# Altium integrated library led-1206.IntLib: 30 symbols
Pins are listed as number, name and electrical type; pins without a type are passive.

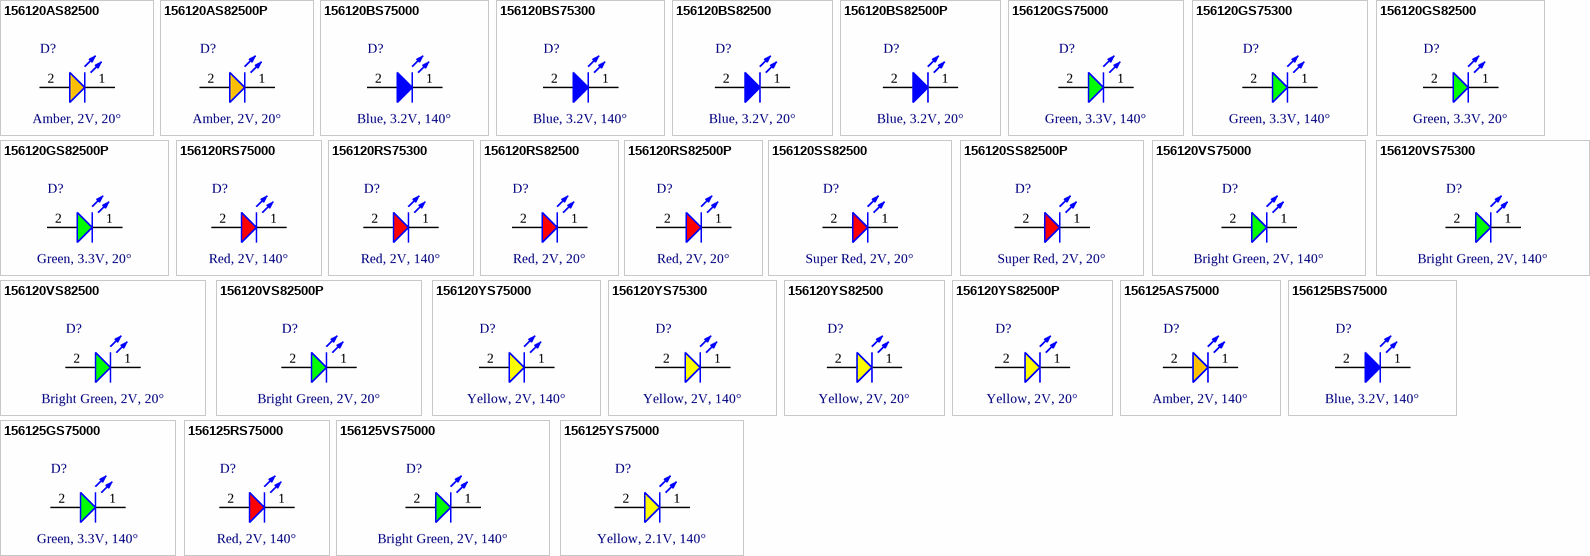
[diagram p0: symbols 156120AS82500 to 156125YS75000]

## 156120AS82500
designator D?, comment Amber, 2V, 20°
WL-SMRW Mono-color Reverse mount Waterclear, SMT, size 1206 dome, Amber, 2V, 20°; Manufacturer Part Number: 156120AS82500; Manufacturer: Wurth Elektronik; Chip Technology: AlInGaP; Dominant Wavelength: 605nm; Luminous Intensity: 2200mcd; Peak Wavelength: 609nm; Category: Signal LEDs; Match Code: WL-SMRW; ComponentLink1Description: Website Link; ComponentLink1URL: https://www.we-online.com/redexpert/article/156120AS82500?ad; ComponentLink2Description: Datasheet Link; ComponentLink2URL: https://www.we-online.com/redexpert/spec/156120AS82500?ad; Mount: Surface Mount; Operating Temperature Max: 85°C; Operating Temperature Min: -40°C; Packaging: Tape and Reel; Case/Size Code: 1206 dome; Length: 3.2mm; Width: 1.6mm; Height: 1.85mm; Emitting Color: Amber; Forward Voltage: 2V; Viewing Angle: 20°
footprint WL-SMRW_1206 dome_reverse use
footprint WL-SMRW_1206 dome_normal use
simulation model 1206_156120AS82500
pins: 1 K, 2 A

## 156120AS82500P
designator D?, comment Amber, 2V, 20°
WL-SMRW Mono-color Reverse mount Waterclear, SMT, size 1206 dome, Amber, 2V, 20°; Manufacturer Part Number: 156120AS82500P; Manufacturer: Wurth Elektronik; Chip Technology: AlInGaP; Dominant Wavelength: 605nm; Luminous Intensity: 2200mcd; Peak Wavelength: 609nm; Category: Signal LEDs; Match Code: WL-SMRW; ComponentLink1Description: Website Link; ComponentLink1URL: https://www.we-online.com/redexpert/article/156120AS82500P?ad; ComponentLink2Description: Datasheet Link; ComponentLink2URL: https://www.we-online.com/redexpert/spec/156120AS82500P?ad; Mount: Surface Mount; Operating Temperature Max: 85°C; Operating Temperature Min: -40°C; Packaging: Tape and Reel; Case/Size Code: 1206 dome; Length: 3.2mm; Width: 1.6mm; Height: 1.85mm; Emitting Color: Amber; Forward Voltage: 2V; Viewing Angle: 20°
footprint WL-SMRW_1206 dome_reverse use
footprint WL-SMRW_1206 dome_normal use
simulation model 1206_156120AS82500P
pins: 1 K, 2 A

## 156120BS75000
designator D?, comment Blue, 3.2V, 140°
WL-SMRW Mono-color Reverse mount Waterclear, SMT, size 1206 rectangular, Blue, 3.2V, 140°; Manufacturer Part Number: 156120BS75000; Manufacturer: Wurth Elektronik; Chip Technology: InGaN; Dominant Wavelength: 470nm; Luminous Intensity: 50mcd; Peak Wavelength: 465nm; Category: Signal LEDs; Match Code: WL-SMRW; ComponentLink1Description: Website Link; ComponentLink1URL: https://www.we-online.com/redexpert/article/156120BS75000?ad; ComponentLink2Description: Datasheet Link; ComponentLink2URL: https://www.we-online.com/redexpert/spec/156120BS75000?ad; Mount: Surface Mount; Operating Temperature Max: 85°C; Operating Temperature Min: -40°C; Packaging: Tape and Reel; Case/Size Code: 1206 rectangular; Length: 3.2mm; Width: 1.6mm; Height: 1.2mm; Emitting Color: Blue; Forward Voltage: 3.2V; Viewing Angle: 140°
footprint WL-SMRW_1206 rectangular_reverse use
footprint WL-SMRW_1206 rectangular_normal use
simulation model 1206_156120BS75000
pins: 1 K, 2 A

## 156120BS75300
designator D?, comment Blue, 3.2V, 140°
WL-SMRW Mono-color Reverse mount Waterclear, SMT, size 1206 cylindrical, Blue, 3.2V, 140°; Manufacturer Part Number: 156120BS75300; Manufacturer: Wurth Elektronik; Chip Technology: InGaN; Dominant Wavelength: 470nm; Luminous Intensity: 50mcd; Peak Wavelength: 465nm; Category: Signal LEDs; Match Code: WL-SMRW; ComponentLink1Description: Website Link; ComponentLink1URL: https://www.we-online.com/redexpert/article/156120BS75300?ad; ComponentLink2Description: Datasheet Link; ComponentLink2URL: https://www.we-online.com/redexpert/spec/156120BS75300?ad; Mount: Surface Mount; Operating Temperature Max: 85°C; Operating Temperature Min: -40°C; Packaging: Tape and Reel; Case/Size Code: 1206 cylindrical; Length: 3.2mm; Width: 1.6mm; Height: 1.2mm; Emitting Color: Blue; Forward Voltage: 3.2V; Viewing Angle: 140°
footprint WL-SMRW_1206 cylindrical_reverse use
footprint WL-SMRW_1206 cylindrical_normal use
simulation model 1206_156120BS75300
pins: 1 K, 2 A

## 156120BS82500
designator D?, comment Blue, 3.2V, 20°
WL-SMRW Mono-color Reverse mount Waterclear, SMT, size 1206 dome, Blue, 3.2V, 20°; Manufacturer Part Number: 156120BS82500; Manufacturer: Wurth Elektronik; Chip Technology: InGaN; Dominant Wavelength: 470nm; Luminous Intensity: 700mcd; Peak Wavelength: 465nm; Category: Signal LEDs; Match Code: WL-SMRW; ComponentLink1Description: Website Link; ComponentLink1URL: https://www.we-online.com/redexpert/article/156120BS82500?ad; ComponentLink2Description: Datasheet Link; ComponentLink2URL: https://www.we-online.com/redexpert/spec/156120BS82500?ad; Mount: Surface Mount; Operating Temperature Max: 85°C; Operating Temperature Min: -40°C; Packaging: Tape and Reel; Case/Size Code: 1206 dome; Length: 3.2mm; Width: 1.6mm; Height: 1.85mm; Emitting Color: Blue; Forward Voltage: 3.2V; Viewing Angle: 20°
footprint WL-SMRW_1206 dome_reverse use
footprint WL-SMRW_1206 dome_normal use
simulation model 1206_156120BS82500
pins: 1 K, 2 A

## 156120BS82500P
designator D?, comment Blue, 3.2V, 20°
WL-SMRW Mono-color Reverse mount Waterclear, SMT, size 1206 dome, Blue, 3.2V, 20°; Manufacturer Part Number: 156120BS82500P; Manufacturer: Wurth Elektronik; Chip Technology: InGaN; Dominant Wavelength: 470nm; Luminous Intensity: 700mcd; Peak Wavelength: 465nm; Category: Signal LEDs; Match Code: WL-SMRW; ComponentLink1Description: Website Link; ComponentLink1URL: https://www.we-online.com/redexpert/article/156120BS82500P?ad; ComponentLink2Description: Datasheet Link; ComponentLink2URL: https://www.we-online.com/redexpert/spec/156120BS82500P?ad; Mount: Surface Mount; Operating Temperature Max: 85°C; Operating Temperature Min: -40°C; Packaging: Tape and Reel; Case/Size Code: 1206 dome; Length: 3.2mm; Width: 1.6mm; Height: 1.85mm; Emitting Color: Blue; Forward Voltage: 3.2V; Viewing Angle: 20°
footprint WL-SMRW_1206 dome_reverse use
footprint WL-SMRW_1206 dome_normal use
simulation model 1206_156120BS82500P
pins: 1 K, 2 A

## 156120GS75000
designator D?, comment Green, 3.3V, 140°
WL-SMRW Mono-color Reverse mount Waterclear, SMT, size 1206 rectangular, Green, 3.3V, 140°; Manufacturer Part Number: 156120GS75000; Manufacturer: Wurth Elektronik; Chip Technology: InGaN; Dominant Wavelength: 525nm; Luminous Intensity: 235mcd; Peak Wavelength: 520nm; Category: Signal LEDs; Match Code: WL-SMRW; ComponentLink1Description: Website Link; ComponentLink1URL: https://www.we-online.com/redexpert/article/156120GS75000?ad; ComponentLink2Description: Datasheet Link; ComponentLink2URL: https://www.we-online.com/redexpert/spec/156120GS75000?ad; Mount: Surface Mount; Operating Temperature Max: 85°C; Operating Temperature Min: -40°C; Packaging: Tape and Reel; Case/Size Code: 1206 rectangular; Length: 3.2mm; Width: 1.6mm; Height: 1.2mm; Emitting Color: Green; Forward Voltage: 3.3V; Viewing Angle: 140°
footprint WL-SMRW_1206 rectangular_reverse use
footprint WL-SMRW_1206 rectangular_normal use
simulation model 1206_156120GS75000
pins: 1 K, 2 A

## 156120GS75300
designator D?, comment Green, 3.3V, 140°
WL-SMRW Mono-color Reverse mount Waterclear, SMT, size 1206 cylindrical, Green, 3.3V, 140°; Manufacturer Part Number: 156120GS75300; Manufacturer: Wurth Elektronik; Chip Technology: InGaN; Dominant Wavelength: 525nm; Luminous Intensity: 235mcd; Peak Wavelength: 520nm; Category: Signal LEDs; Match Code: WL-SMRW; ComponentLink1Description: Website Link; ComponentLink1URL: https://www.we-online.com/redexpert/article/156120GS75300?ad; ComponentLink2Description: Datasheet Link; ComponentLink2URL: https://www.we-online.com/redexpert/spec/156120GS75300?ad; Mount: Surface Mount; Operating Temperature Max: 85°C; Operating Temperature Min: -40°C; Packaging: Tape and Reel; Case/Size Code: 1206 cylindrical; Length: 3.2mm; Width: 1.6mm; Height: 1.2mm; Emitting Color: Green; Forward Voltage: 3.3V; Viewing Angle: 140°
footprint WL-SMRW_1206 cylindrical_reverse use
footprint WL-SMRW_1206 cylindrical_normal use
simulation model 1206_156120GS75300
pins: 1 K, 2 A

## 156120GS82500
designator D?, comment Green, 3.3V, 20°
WL-SMRW Mono-color Reverse mount Waterclear, SMT, size 1206 dome, Green, 3.3V, 20°; Manufacturer Part Number: 156120GS82500; Manufacturer: Wurth Elektronik; Chip Technology: InGaN; Dominant Wavelength: 525nm; Luminous Intensity: 1500mcd; Peak Wavelength: 520nm; Category: Signal LEDs; Match Code: WL-SMRW; ComponentLink1Description: Website Link; ComponentLink1URL: https://www.we-online.com/redexpert/article/156120GS82500?ad; ComponentLink2Description: Datasheet Link; ComponentLink2URL: https://www.we-online.com/redexpert/spec/156120GS82500?ad; Mount: Surface Mount; Operating Temperature Max: 85°C; Operating Temperature Min: -40°C; Packaging: Tape and Reel; Case/Size Code: 1206 dome; Length: 3.2mm; Width: 1.6mm; Height: 1.85mm; Emitting Color: Green; Forward Voltage: 3.3V; Viewing Angle: 20°
footprint WL-SMRW_1206 dome_reverse use
footprint WL-SMRW_1206 dome_normal use
simulation model 1206_156120GS82500
pins: 1 K, 2 A

## 156120GS82500P
designator D?, comment Green, 3.3V, 20°
WL-SMRW Mono-color Reverse mount Waterclear, SMT, size 1206 dome, Green, 3.3V, 20°; Manufacturer Part Number: 156120GS82500P; Manufacturer: Wurth Elektronik; Chip Technology: InGaN; Dominant Wavelength: 525nm; Luminous Intensity: 1500mcd; Peak Wavelength: 520nm; Category: Signal LEDs; Match Code: WL-SMRW; ComponentLink1Description: Website Link; ComponentLink1URL: https://www.we-online.com/redexpert/article/156120GS82500P?ad; ComponentLink2Description: Datasheet Link; ComponentLink2URL: https://www.we-online.com/redexpert/spec/156120GS82500P?ad; Mount: Surface Mount; Operating Temperature Max: 85°C; Operating Temperature Min: -40°C; Packaging: Tape and Reel; Case/Size Code: 1206 dome; Length: 3.2mm; Width: 1.6mm; Height: 1.85mm; Emitting Color: Green; Forward Voltage: 3.3V; Viewing Angle: 20°
footprint WL-SMRW_1206 dome_reverse use
footprint WL-SMRW_1206 dome_normal use
simulation model 1206_156120GS82500P
pins: 1 K, 2 A

## 156120RS75000
designator D?, comment Red, 2V, 140°
WL-SMRW Mono-color Reverse mount Waterclear, SMT, size 1206 rectangular, Red, 2V, 140°; Manufacturer Part Number: 156120RS75000; Manufacturer: Wurth Elektronik; Chip Technology: AlInGaP; Dominant Wavelength: 624nm; Luminous Intensity: 60mcd; Peak Wavelength: 632nm; Category: Signal LEDs; Match Code: WL-SMRW; ComponentLink1Description: Website Link; ComponentLink1URL: https://www.we-online.com/redexpert/article/156120RS75000?ad; ComponentLink2Description: Datasheet Link; ComponentLink2URL: https://www.we-online.com/redexpert/spec/156120RS75000?ad; Mount: Surface Mount; Operating Temperature Max: 85°C; Operating Temperature Min: -40°C; Packaging: Tape and Reel; Case/Size Code: 1206 rectangular; Length: 3.2mm; Width: 1.6mm; Height: 1.2mm; Emitting Color: Red; Forward Voltage: 2V; Viewing Angle: 140°
footprint WL-SMRW_1206 rectangular_reverse use
footprint WL-SMRW_1206 rectangular_normal use
simulation model 1206_156120RS75000
pins: 1 K, 2 A

## 156120RS75300
designator D?, comment Red, 2V, 140°
WL-SMRW Mono-color Reverse mount Waterclear, SMT, size 1206 cylindrical, Red, 2V, 140°; Manufacturer Part Number: 156120RS75300; Manufacturer: Wurth Elektronik; Chip Technology: AlInGaP; Dominant Wavelength: 624nm; Luminous Intensity: 60mcd; Peak Wavelength: 632nm; Category: Signal LEDs; Match Code: WL-SMRW; ComponentLink1Description: Website Link; ComponentLink1URL: https://www.we-online.com/redexpert/article/156120RS75300?ad; ComponentLink2Description: Datasheet Link; ComponentLink2URL: https://www.we-online.com/redexpert/spec/156120RS75300?ad; Mount: Surface Mount; Operating Temperature Max: 85°C; Operating Temperature Min: -40°C; Packaging: Tape and Reel; Case/Size Code: 1206 cylindrical; Length: 3.2mm; Width: 1.6mm; Height: 1.2mm; Emitting Color: Red; Forward Voltage: 2V; Viewing Angle: 140°
footprint WL-SMRW_1206 cylindrical_reverse use
footprint WL-SMRW_1206 cylindrical_normal use
simulation model 1206_156120RS75300
pins: 1 K, 2 A

## 156120RS82500
designator D?, comment Red, 2V, 20°
WL-SMRW Mono-color Reverse mount Waterclear, SMT, size 1206 dome, Red, 2V, 20°; Manufacturer Part Number: 156120RS82500; Manufacturer: Wurth Elektronik; Chip Technology: AlInGaP; Dominant Wavelength: 624nm; Luminous Intensity: 1100mcd; Peak Wavelength: 632nm; Category: Signal LEDs; Match Code: WL-SMRW; ComponentLink1Description: Website Link; ComponentLink1URL: https://www.we-online.com/redexpert/article/156120RS82500?ad; ComponentLink2Description: Datasheet Link; ComponentLink2URL: https://www.we-online.com/redexpert/spec/156120RS82500?ad; Mount: Surface Mount; Operating Temperature Max: 85°C; Operating Temperature Min: -40°C; Packaging: Tape and Reel; Case/Size Code: 1206 dome; Length: 3.2mm; Width: 1.6mm; Height: 1.85mm; Emitting Color: Red; Forward Voltage: 2V; Viewing Angle: 20°
footprint WL-SMRW_1206 dome_reverse use
footprint WL-SMRW_1206 dome_normal use
simulation model 1206_156120RS82500
pins: 1 K, 2 A

## 156120RS82500P
designator D?, comment Red, 2V, 20°
WL-SMRW Mono-color Reverse mount Waterclear, SMT, size 1206 dome, Red, 2V, 20°; Manufacturer Part Number: 156120RS82500P; Manufacturer: Wurth Elektronik; Chip Technology: AlInGaP; Dominant Wavelength: 624nm; Luminous Intensity: 1100mcd; Peak Wavelength: 632nm; Category: Signal LEDs; Match Code: WL-SMRW; ComponentLink1Description: Website Link; ComponentLink1URL: https://www.we-online.com/redexpert/article/156120RS82500P?ad; ComponentLink2Description: Datasheet Link; ComponentLink2URL: https://www.we-online.com/redexpert/spec/156120RS82500P?ad; Mount: Surface Mount; Operating Temperature Max: 85°C; Operating Temperature Min: -40°C; Packaging: Tape and Reel; Case/Size Code: 1206 dome; Length: 3.2mm; Width: 1.6mm; Height: 1.85mm; Emitting Color: Red; Forward Voltage: 2V; Viewing Angle: 20°
footprint WL-SMRW_1206 dome_reverse use
footprint WL-SMRW_1206 dome_normal use
simulation model 1206_156120RS82500P
pins: 1 K, 2 A

## 156120SS82500
designator D?, comment Super Red, 2V, 20°
WL-SMRW Mono-color Reverse mount Waterclear, SMT, size 1206 dome, Super Red, 2V, 20°; Manufacturer Part Number: 156120SS82500; Manufacturer: Wurth Elektronik; Chip Technology: AlInGaP; Dominant Wavelength: 630nm; Luminous Intensity: 900mcd; Peak Wavelength: 645nm; Category: Signal LEDs; Match Code: WL-SMRW; ComponentLink1Description: Website Link; ComponentLink1URL: https://www.we-online.com/redexpert/article/156120SS82500?ad; ComponentLink2Description: Datasheet Link; ComponentLink2URL: https://www.we-online.com/redexpert/spec/156120SS82500?ad; Mount: Surface Mount; Operating Temperature Max: 85°C; Operating Temperature Min: -40°C; Packaging: Tape and Reel; Case/Size Code: 1206 dome; Length: 3.2mm; Width: 1.6mm; Height: 1.85mm; Emitting Color: Super Red; Forward Voltage: 2V; Viewing Angle: 20°
footprint WL-SMRW_1206 dome_reverse use
footprint WL-SMRW_1206 dome_normal use
simulation model 1206_156120SS82500
pins: 1 K, 2 A

## 156120SS82500P
designator D?, comment Super Red, 2V, 20°
WL-SMRW Mono-color Reverse mount Waterclear, SMT, size 1206 dome, Super Red, 2V, 20°; Manufacturer Part Number: 156120SS82500P; Manufacturer: Wurth Elektronik; Chip Technology: AlInGaP; Dominant Wavelength: 630nm; Luminous Intensity: 900mcd; Peak Wavelength: 645nm; Category: Signal LEDs; Match Code: WL-SMRW; ComponentLink1Description: Website Link; ComponentLink1URL: https://www.we-online.com/redexpert/article/156120SS82500P?ad; ComponentLink2Description: Datasheet Link; ComponentLink2URL: https://www.we-online.com/redexpert/spec/156120SS82500P?ad; Mount: Surface Mount; Operating Temperature Max: 85°C; Operating Temperature Min: -40°C; Packaging: Tape and Reel; Case/Size Code: 1206 dome; Length: 3.2mm; Width: 1.6mm; Height: 1.85mm; Emitting Color: Super Red; Forward Voltage: 2V; Viewing Angle: 20°
footprint WL-SMRW_1206 dome_reverse use
footprint WL-SMRW_1206 dome_normal use
simulation model 1206_156120SS82500P
pins: 1 K, 2 A

## 156120VS75000
designator D?, comment Bright Green, 2V, 140°
WL-SMRW Mono-color Reverse mount Waterclear, SMT, size 1206 rectangular, Bright Green, 2V, 140°; Manufacturer Part Number: 156120VS75000; Manufacturer: Wurth Elektronik; Chip Technology: AlInGaP; Dominant Wavelength: 573nm; Luminous Intensity: 30mcd; Peak Wavelength: 575nm; Category: Signal LEDs; Match Code: WL-SMRW; ComponentLink1Description: Website Link; ComponentLink1URL: https://www.we-online.com/redexpert/article/156120VS75000?ad; ComponentLink2Description: Datasheet Link; ComponentLink2URL: https://www.we-online.com/redexpert/spec/156120VS75000?ad; Mount: Surface Mount; Operating Temperature Max: 85°C; Operating Temperature Min: -40°C; Packaging: Tape and Reel; Case/Size Code: 1206 rectangular; Length: 3.2mm; Width: 1.6mm; Height: 1.2mm; Emitting Color: Bright Green; Forward Voltage: 2V; Viewing Angle: 140°
footprint WL-SMRW_1206 rectangular_reverse use
footprint WL-SMRW_1206 rectangular_normal use
simulation model 1206_156120VS75000
pins: 1 K, 2 A

## 156120VS75300
designator D?, comment Bright Green, 2V, 140°
WL-SMRW Mono-color Reverse mount Waterclear, SMT, size 1206 cylindrical, Bright Green, 2V, 140°; Manufacturer Part Number: 156120VS75300; Manufacturer: Wurth Elektronik; Chip Technology: AlInGaP; Dominant Wavelength: 573nm; Luminous Intensity: 30mcd; Peak Wavelength: 575nm; Category: Signal LEDs; Match Code: WL-SMRW; ComponentLink1Description: Website Link; ComponentLink1URL: https://www.we-online.com/redexpert/article/156120VS75300?ad; ComponentLink2Description: Datasheet Link; ComponentLink2URL: https://www.we-online.com/redexpert/spec/156120VS75300?ad; Mount: Surface Mount; Operating Temperature Max: 85°C; Operating Temperature Min: -40°C; Packaging: Tape and Reel; Case/Size Code: 1206 cylindrical; Length: 3.2mm; Width: 1.6mm; Height: 1.2mm; Emitting Color: Bright Green; Forward Voltage: 2V; Viewing Angle: 140°
footprint WL-SMRW_1206 cylindrical_reverse use
footprint WL-SMRW_1206 cylindrical_normal use
simulation model 1206_156120VS75300
pins: 1 K, 2 A

## 156120VS82500
designator D?, comment Bright Green, 2V, 20°
WL-SMRW Mono-color Reverse mount Waterclear, SMT, size 1206 dome, Bright Green, 2V, 20°; Manufacturer Part Number: 156120VS82500; Manufacturer: Wurth Elektronik; Chip Technology: AlInGaP; Dominant Wavelength: 573nm; Luminous Intensity: 1050mcd; Peak Wavelength: 575nm; Category: Signal LEDs; Match Code: WL-SMRW; ComponentLink1Description: Website Link; ComponentLink1URL: https://www.we-online.com/redexpert/article/156120VS82500?ad; ComponentLink2Description: Datasheet Link; ComponentLink2URL: https://www.we-online.com/redexpert/spec/156120VS82500?ad; Mount: Surface Mount; Operating Temperature Max: 85°C; Operating Temperature Min: -40°C; Packaging: Tape and Reel; Case/Size Code: 1206 dome; Length: 3.2mm; Width: 1.6mm; Height: 1.85mm; Emitting Color: Bright Green; Forward Voltage: 2V; Viewing Angle: 20°
footprint WL-SMRW_1206 dome_reverse use
footprint WL-SMRW_1206 dome_normal use
simulation model 1206_156120VS82500
pins: 1 K, 2 A

## 156120VS82500P
designator D?, comment Bright Green, 2V, 20°
WL-SMRW Mono-color Reverse mount Waterclear, SMT, size 1206 dome, Bright Green, 2V, 20°; Manufacturer Part Number: 156120VS82500P; Manufacturer: Wurth Elektronik; Chip Technology: AlInGaP; Dominant Wavelength: 573nm; Luminous Intensity: 1050mcd; Peak Wavelength: 575nm; Category: Signal LEDs; Match Code: WL-SMRW; ComponentLink1Description: Website Link; ComponentLink1URL: https://www.we-online.com/redexpert/article/156120VS82500P?ad; ComponentLink2Description: Datasheet Link; ComponentLink2URL: https://www.we-online.com/redexpert/spec/156120VS82500P?ad; Mount: Surface Mount; Operating Temperature Max: 85°C; Operating Temperature Min: -40°C; Packaging: Tape and Reel; Case/Size Code: 1206 dome; Length: 3.2mm; Width: 1.6mm; Height: 1.85mm; Emitting Color: Bright Green; Forward Voltage: 2V; Viewing Angle: 20°
footprint WL-SMRW_1206 dome_reverse use
footprint WL-SMRW_1206 dome_normal use
simulation model 1206_156120VS82500P
pins: 1 K, 2 A

## 156120YS75000
designator D?, comment Yellow, 2V, 140°
WL-SMRW Mono-color Reverse mount Waterclear, SMT, size 1206 rectangular, Yellow, 2V, 140°; Manufacturer Part Number: 156120YS75000; Manufacturer: Wurth Elektronik; Chip Technology: AlInGaP; Dominant Wavelength: 589nm; Luminous Intensity: 80mcd; Peak Wavelength: 592nm; Category: Signal LEDs; Match Code: WL-SMRW; ComponentLink1Description: Website Link; ComponentLink1URL: https://www.we-online.com/redexpert/article/156120YS75000?ad; ComponentLink2Description: Datasheet Link; ComponentLink2URL: https://www.we-online.com/redexpert/spec/156120YS75000?ad; Mount: Surface Mount; Operating Temperature Max: 85°C; Operating Temperature Min: -40°C; Packaging: Tape and Reel; Case/Size Code: 1206 rectangular; Length: 3.2mm; Width: 1.6mm; Height: 1.2mm; Emitting Color: Yellow; Forward Voltage: 2V; Viewing Angle: 140°
footprint WL-SMRW_1206 rectangular_reverse use
footprint WL-SMRW_1206 rectangular_normal use
simulation model 1206_156120YS75000
pins: 1 K, 2 A

## 156120YS75300
designator D?, comment Yellow, 2V, 140°
WL-SMRW Mono-color Reverse mount Waterclear, SMT, size 1206 cylindrical, Yellow, 2V, 140°; Manufacturer Part Number: 156120YS75300; Manufacturer: Wurth Elektronik; Chip Technology: AlInGaP; Dominant Wavelength: 589nm; Luminous Intensity: 80mcd; Peak Wavelength: 592nm; Category: Signal LEDs; Match Code: WL-SMRW; ComponentLink1Description: Website Link; ComponentLink1URL: https://www.we-online.com/redexpert/article/156120YS75300?ad; ComponentLink2Description: Datasheet Link; ComponentLink2URL: https://www.we-online.com/redexpert/spec/156120YS75300?ad; Mount: Surface Mount; Operating Temperature Max: 85°C; Operating Temperature Min: -40°C; Packaging: Tape and Reel; Case/Size Code: 1206 cylindrical; Length: 3.2mm; Width: 1.6mm; Height: 1.2mm; Emitting Color: Yellow; Forward Voltage: 2V; Viewing Angle: 140°
footprint WL-SMRW_1206 cylindrical_reverse use
footprint WL-SMRW_1206 cylindrical_normal use
simulation model 1206_156120YS75300
pins: 1 K, 2 A

## 156120YS82500
designator D?, comment Yellow, 2V, 20°
WL-SMRW Mono-color Reverse mount Waterclear, SMT, size 1206 dome, Yellow, 2V, 20°; Manufacturer Part Number: 156120YS82500; Manufacturer: Wurth Elektronik; Chip Technology: AlInGaP; Dominant Wavelength: 589nm; Luminous Intensity: 1400mcd; Peak Wavelength: 591nm; Category: Signal LEDs; Match Code: WL-SMRW; ComponentLink1Description: Website Link; ComponentLink1URL: https://www.we-online.com/redexpert/article/156120YS82500?ad; ComponentLink2Description: Datasheet Link; ComponentLink2URL: https://www.we-online.com/redexpert/spec/156120YS82500?ad; Mount: Surface Mount; Operating Temperature Max: 85°C; Operating Temperature Min: -40°C; Packaging: Tape and Reel; Case/Size Code: 1206 dome; Length: 3.2mm; Width: 1.6mm; Height: 1.85mm; Emitting Color: Yellow; Forward Voltage: 2V; Viewing Angle: 20°
footprint WL-SMRW_1206 dome_reverse use
footprint WL-SMRW_1206 dome_normal use
simulation model 1206_156120YS82500
pins: 1 K, 2 A

## 156120YS82500P
designator D?, comment Yellow, 2V, 20°
WL-SMRW Mono-color Reverse mount Waterclear, SMT, size 1206 dome, Yellow, 2V, 20°; Manufacturer Part Number: 156120YS82500P; Manufacturer: Wurth Elektronik; Chip Technology: AlInGaP; Dominant Wavelength: 589nm; Luminous Intensity: 1400mcd; Peak Wavelength: 591nm; Category: Signal LEDs; Match Code: WL-SMRW; ComponentLink1Description: Website Link; ComponentLink1URL: https://www.we-online.com/redexpert/article/156120YS82500P?ad; ComponentLink2Description: Datasheet Link; ComponentLink2URL: https://www.we-online.com/redexpert/spec/156120YS82500P?ad; Mount: Surface Mount; Operating Temperature Max: 85°C; Operating Temperature Min: -40°C; Packaging: Tape and Reel; Case/Size Code: 1206 dome; Length: 3.2mm; Width: 1.6mm; Height: 1.85mm; Emitting Color: Yellow; Forward Voltage: 2V; Viewing Angle: 20°
footprint WL-SMRW_1206 dome_reverse use
footprint WL-SMRW_1206 dome_normal use
simulation model 1206_156120YS82500P
pins: 1 K, 2 A

## 156125AS75000
designator D?, comment Amber, 2V, 140°
WL-SMRW Mono-color Reverse mount Waterclear, SMT, size 1205, Amber, 2V, 140°; Manufacturer Part Number: 156125AS75000; Manufacturer: Wurth Elektronik; Case/Size Code: 1205; Chip Technology: AlInGaP; Dominant Wavelength: 605nm; Luminous Intensity: 100mcd; Peak Wavelength: 609nm; Category: Signal LEDs; Match Code: WL-SMRW; ComponentLink1Description: Website Link; ComponentLink1URL: https://www.we-online.com/redexpert/article/156125AS75000?ad; ComponentLink2Description: Datasheet Link; ComponentLink2URL: https://www.we-online.com/redexpert/spec/156125AS75000?ad; Mount: Surface Mount; Operating Temperature Max: 85°C; Operating Temperature Min: -40°C; Packaging: Tape and Reel; Length: 3.2mm; Width: 1.2mm; Height: 1.1mm; Emitting Color: Amber; Forward Voltage: 2V; Viewing Angle: 140°
footprint WL-SMRW_1205_reverse use
footprint WL-SMRW_1205_normal use
simulation model 1205_156125AS75000
pins: 1 K, 2 A

## 156125BS75000
designator D?, comment Blue, 3.2V, 140°
WL-SMRW Mono-color Reverse mount Waterclear, SMT, size 1205, Blue, 3.2V, 140°; Manufacturer Part Number: 156125BS75000; Manufacturer: Wurth Elektronik; Case/Size Code: 1205; Chip Technology: InGaN; Dominant Wavelength: 470nm; Luminous Intensity: 120mcd; Peak Wavelength: 465nm; Category: Signal LEDs; Match Code: WL-SMRW; ComponentLink1Description: Website Link; ComponentLink1URL: https://www.we-online.com/redexpert/article/156125BS75000?ad; ComponentLink2Description: Datasheet Link; ComponentLink2URL: https://www.we-online.com/redexpert/spec/156125BS75000?ad; Mount: Surface Mount; Operating Temperature Max: 85°C; Operating Temperature Min: -40°C; Packaging: Tape and Reel; Length: 3.2mm; Width: 1.2mm; Height: 1.1mm; Emitting Color: Blue; Forward Voltage: 3.2V; Viewing Angle: 140°
footprint WL-SMRW_1205_reverse use
footprint WL-SMRW_1205_normal use
simulation model 1205_156125BS75000
pins: 1 K, 2 A

## 156125GS75000
designator D?, comment Green, 3.3V, 140°
WL-SMRW Mono-color Reverse mount Waterclear, SMT, size 1205, Green, 3.3V, 140°; Manufacturer Part Number: 156125GS75000; Manufacturer: Wurth Elektronik; Case/Size Code: 1205; Chip Technology: InGaN; Dominant Wavelength: 525nm; Luminous Intensity: 450mcd; Peak Wavelength: 520nm; Category: Signal LEDs; Match Code: WL-SMRW; ComponentLink1Description: Website Link; ComponentLink1URL: https://www.we-online.com/redexpert/article/156125GS75000?ad; ComponentLink2Description: Datasheet Link; ComponentLink2URL: https://www.we-online.com/redexpert/spec/156125GS75000?ad; Mount: Surface Mount; Operating Temperature Max: 85°C; Operating Temperature Min: -40°C; Packaging: Tape and Reel; Length: 3.2mm; Width: 1.2mm; Height: 1.1mm; Emitting Color: Green; Forward Voltage: 3.3V; Viewing Angle: 140°
footprint WL-SMRW_1205_reverse use
footprint WL-SMRW_1205_normal use
simulation model 1205_156125GS75000
pins: 1 K, 2 A

## 156125RS75000
designator D?, comment Red, 2V, 140°
WL-SMRW Mono-color Reverse mount Waterclear, SMT, size 1205, Red, 2V, 140°; Manufacturer Part Number: 156125RS75000; Manufacturer: Wurth Elektronik; Case/Size Code: 1205; Chip Technology: AlInGaP; Dominant Wavelength: 624nm; Luminous Intensity: 110mcd; Peak Wavelength: 632nm; Category: Signal LEDs; Match Code: WL-SMRW; ComponentLink1Description: Website Link; ComponentLink1URL: https://www.we-online.com/redexpert/article/156125RS75000?ad; ComponentLink2Description: Datasheet Link; ComponentLink2URL: https://www.we-online.com/redexpert/spec/156125RS75000?ad; Mount: Surface Mount; Operating Temperature Max: 85°C; Operating Temperature Min: -40°C; Packaging: Tape and Reel; Length: 3.2mm; Width: 1.2mm; Height: 1.1mm; Emitting Color: Red; Forward Voltage: 2V; Viewing Angle: 140°
footprint WL-SMRW_1205_reverse use
footprint WL-SMRW_1205_normal use
simulation model 1205_156125RS75000
pins: 1 K, 2 A

## 156125VS75000
designator D?, comment Bright Green, 2V, 140°
WL-SMRW Mono-color Reverse mount Waterclear, SMT, size 1205, Bright Green, 2V, 140°; Manufacturer Part Number: 156125VS75000; Manufacturer: Wurth Elektronik; Case/Size Code: 1205; Chip Technology: AlInGaP; Dominant Wavelength: 573nm; Luminous Intensity: 45mcd; Peak Wavelength: 575nm; Category: Signal LEDs; Match Code: WL-SMRW; ComponentLink1Description: Website Link; ComponentLink1URL: https://www.we-online.com/redexpert/article/156125VS75000?ad; ComponentLink2Description: Datasheet Link; ComponentLink2URL: https://www.we-online.com/redexpert/spec/156125VS75000?ad; Mount: Surface Mount; Operating Temperature Max: 85°C; Operating Temperature Min: -40°C; Packaging: Tape and Reel; Length: 3.2mm; Width: 1.2mm; Height: 1.1mm; Emitting Color: Bright Green; Forward Voltage: 2V; Viewing Angle: 140°
footprint WL-SMRW_1205_reverse use
footprint WL-SMRW_1205_normal use
simulation model 1205_156125VS75000
pins: 1 K, 2 A

## 156125YS75000
designator D?, comment Yellow, 2.1V, 140°
WL-SMRW Mono-color Reverse mount Waterclear, SMT, size 1205, Yellow, 2.1V, 140°; Manufacturer Part Number: 156125YS75000; Manufacturer: Wurth Elektronik; Case/Size Code: 1205; Chip Technology: AlInGaP; Dominant Wavelength: 589nm; Luminous Intensity: 70mcd; Peak Wavelength: 591nm; Category: Signal LEDs; Match Code: WL-SMRW; ComponentLink1Description: Website Link; ComponentLink1URL: https://www.we-online.com/redexpert/article/156125YS75000?ad; ComponentLink2Description: Datasheet Link; ComponentLink2URL: https://www.we-online.com/redexpert/spec/156125YS75000?ad; Mount: Surface Mount; Operating Temperature Max: 85°C; Operating Temperature Min: -40°C; Packaging: Tape and Reel; Length: 3.2mm; Width: 1.2mm; Height: 1.1mm; Emitting Color: Yellow; Forward Voltage: 2.1V; Viewing Angle: 140°
footprint WL-SMRW_1205_reverse use
footprint WL-SMRW_1205_normal use
simulation model 1205_156125YS75000
pins: 1 K, 2 A